# Altium integrated library Linear Technology Power Management Battery Management.IntLib: 626 symbols (part 45 of 56)
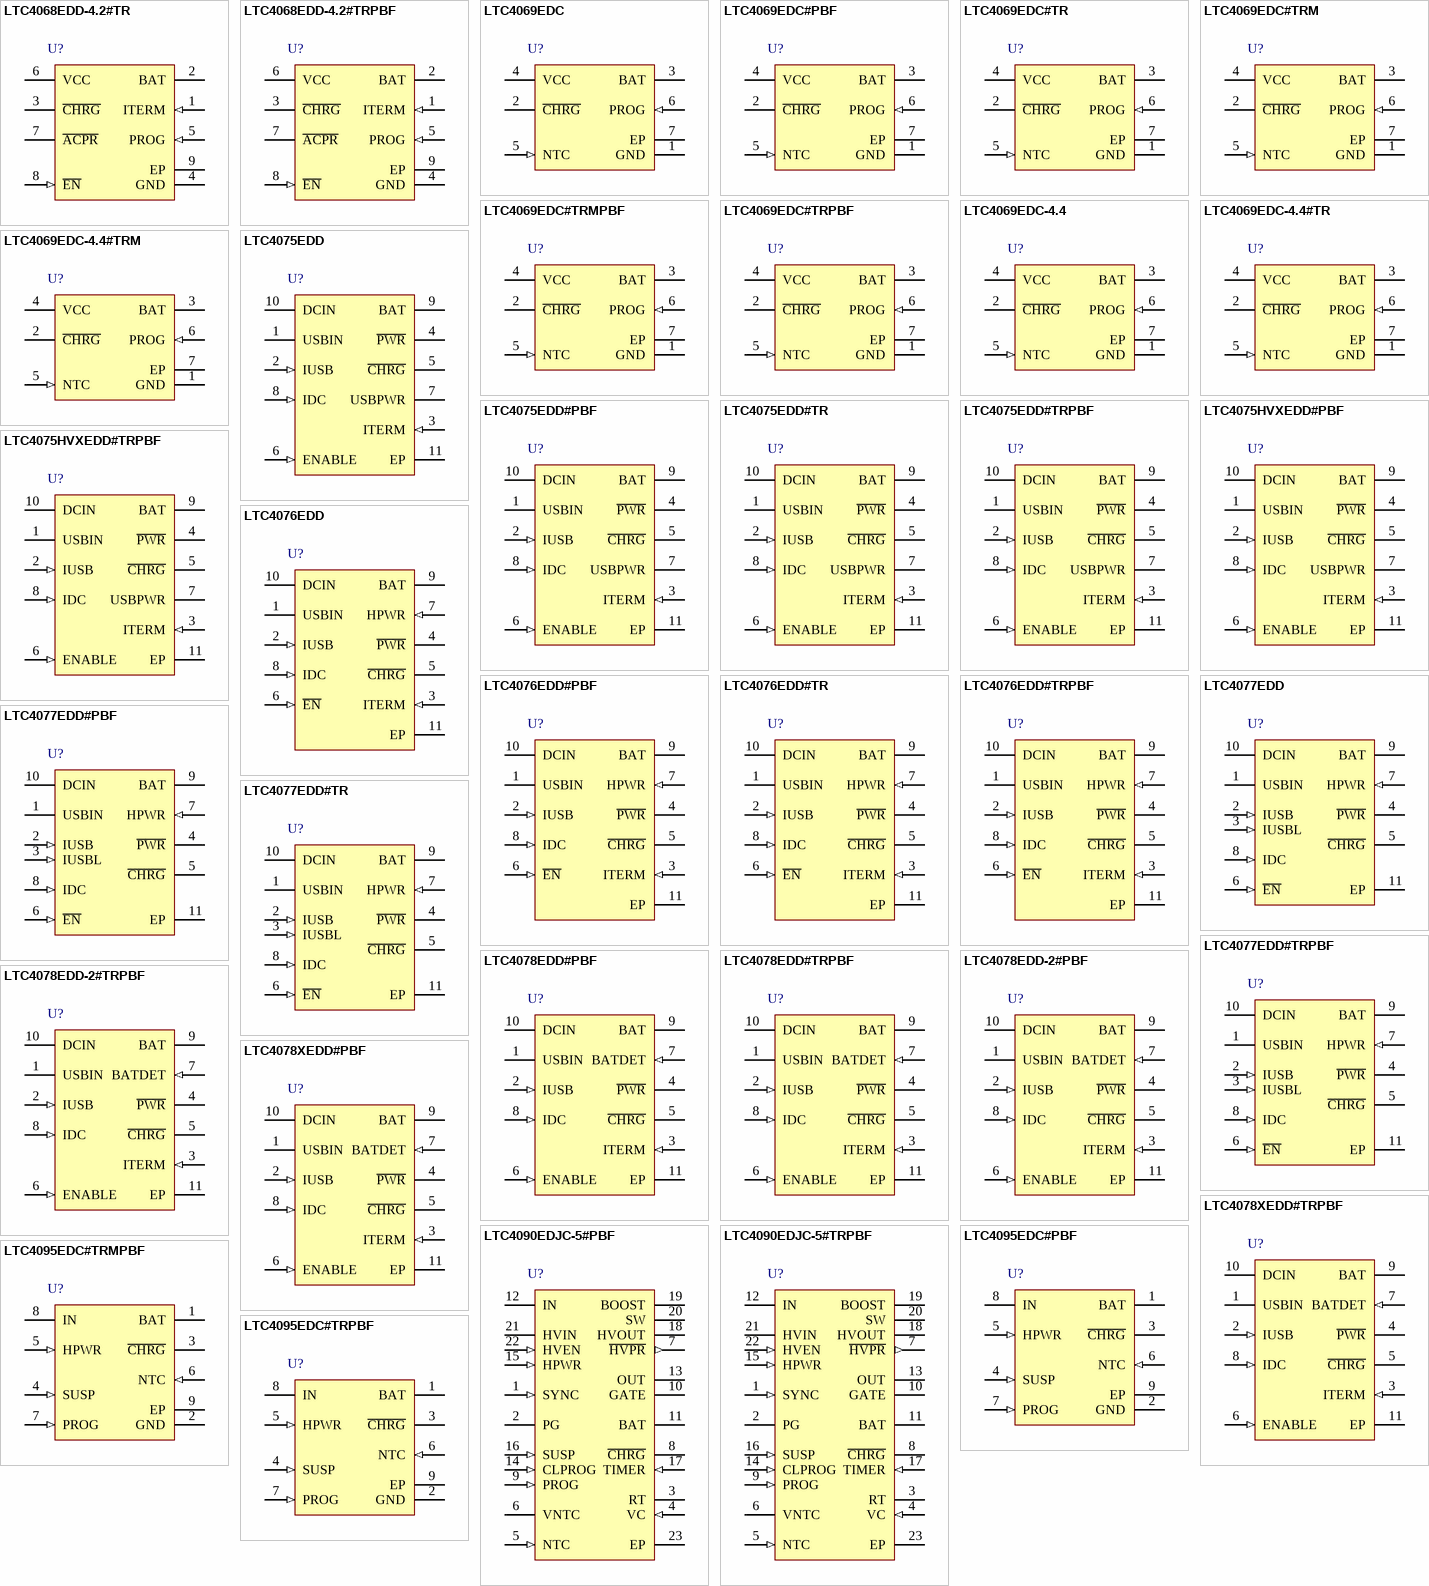
[diagram p66: symbols LTC4068EDD-4.2#TR to LTC4095EDC#TRPBF]

## LTC4068EDD-4.2#TRPBF
designator U?
Standalone Linear Li-Ion Battery Charger with Programmable Termination, 4.25 to 6.5 V Vin, 8-pin SON (DD-8), -40 to 85 degC, Pb-Free, Tape and Reel; Manufacturer: Linear Technology; PartNumber: LTC4068EDD-4.2#TRPBF; Battery Chemistry: Li-Ion, Li-Polymer; Charge Termination: C/x; Float Voltage: 4.2 V; Max Charge Current(A): 0.95; Number of Cells: 1; Vin Max(V): 6.5; Vin Min(V): 4.25; DatasheetVersion: Rev. A; PackageVersion: Jun-10; PackageReference: DD-8; PackageDescription: 8-Pin Plastic DFN, Body 3 x 3 mm, Pitch 0.5 mm; Supplier 1: Digi-Key; Supplier Part Number 1: LTC4068EDD-4.2#TRPBF-ND; Packing: Tape and Reel; RoHS: TRUE; Type of Charger: Linear; Mounting Technology: Surface Mount; Code_JEDEC: MO-229; ComponentLink1Description: Manufacturer URL; ComponentLink1URL: http://www.linear.com/; ComponentLink2Description: Datasheet; ComponentLink2URL: http://cds.linear.com/docs/en/datasheet/406842fa.pdf; ComponentLink3Description: Package Specification; ComponentLink3URL: http://cds.linear.com/docs/en/packaging/DFN_8_05-08-1698.pdf
footprint LT-DD-8_V (SON, 8-Leads, Body 3x3mm, Pitch 0.5mm, Thermal Pad 1.65x2.38 mm)
pins: 1 ITERM (in) "Charge Termination Program. The charge termination current threshold current is programmed by connecting a 1% resistor, RTERM, to ground.", 2 BAT (power) "Charge Current Output. Provides charge current to the battery from the internal P-channel MOSFET, and regulates the final float voltage to 4.2V. An internal precision resistor divider from this pin sets the float voltage. (See Datasheet)", 3 ~{CHRG} (hiz) "Charge Status Open-Drain Output. When the battery is charging, the C\H\R\G\ pin is pulled low by an internal N-channel MOSFET. When the charge cycle is completed, C\H\R\G\ becomes high impedance.", 4 GND (power) "Ground/Exposed Pad. The exposed backside package pad (Pin 9) is electrical ground and must be soldered to the PC board for maximum heat transfer.", 5 PROG (in) "Charge Current Program and Charge Current Monitor. Charge current is programmed by connecting a 1% resistor, RPROG, to ground. When charging in constant-current mode, this pin servos to 1V.", 6 VCC (power) "Positive Input Supply Voltage. Provides power to the charger. VCC can range from 4.25V to 6.5V. This pin should be bypassed with at least a 1uF capacitor.When VCC is within 100mV of the BAT pin voltage, the LTC4068 enters (See Datasheet)", 7 ~{ACPR} (hiz) "Power Supply Status Open-Drain Output. When VCC is greater than the undervoltage lockout threshold and at least 100mV above VBAT, the A\C\P\R\ pin is pulled to ground; otherwise, the pin is high impedance.", 8 ~{EN} (in) "Enable Input . A logic high on the E\N\ pin will put the LTC4068 into shutdown mode where the battery drain current is reduced to less than 2uA and the supply current is reduced to less than 50uA. A logic low or floating the (See Datasheet)", 9 EP (power) "Ground/Exposed Pad. The exposed backside package pad (Pin 9) is electrical ground and must be soldered to the PC board for maximum heat transfer."

## LTC4069EDC
designator U?
Standalone 750 mA Li-Ion Battery Charger with NTC Thermistor Input, 3.75 to 5.5 V Vin, 6-pin SON (DC6-6), -40 to 85 degC; Manufacturer: Linear Technology; PartNumber: LTC4069EDC; Battery Chemistry: Li-Ion, Li-Polymer; Charge Termination: C/10; Float Voltage: 4.2 V; Max Charge Current(A): 0.75; Number of Cells: 1; Type of Charger: Linear; Vin Max(V): 5.5; Vin Min(V): 3.75; DatasheetVersion: Rev. B; PackageVersion: Rev. B, 06/2010; PackageReference: DC6-6; PackageDescription: 6-Pin Plastic DFN, Body 2 x 2 mm, Pitch 0.5 mm; RoHS: FALSE; Mounting Technology: Surface Mount; Code_JEDEC: MO-229; ComponentLink1Description: Manufacturer URL; ComponentLink1URL: http://www.linear.com/; ComponentLink2Description: Datasheet; ComponentLink2URL: http://cds.linear.com/docs/en/datasheet/4069fb.pdf; ComponentLink3Description: Package Specification; ComponentLink3URL: http://cds.linear.com/docs/en/packaging/DFN_6_05-08-1703.pdf
footprint LT-DC6-6_V (SON, 6-Leads, Body 2x2mm, Pitch 0.5mm, Thermal Pad 1.42x0.61mm)
pins: 1 GND (power) "Ground.", 2 ~{CHRG} (hiz) "Open-Drain Charge Status Output. The charge status indicator pin has three states: pull-down, pulse at 2Hz and high impedance state. This output can be used as a logic interface or as an LED driver. When the battery is being (See Datasheet)", 3 BAT (power) "Charge Current Output. Provides charge current to the battery and regulates the final float voltage to 4.2V. An internal precision resistor divider on this pin sets the float voltage and is disconnected in shutdown mode.", 4 VCC (power) "Positive Input Supply Voltage. This pin provides power to the charger. VCC can range from 3.75V to 5.5V. This pin should be bypassed with at least a 1uF capacitor. When VCC is within 32mV of the BAT pin voltage, the LTC4069 (See Datasheet)", 5 NTC (in) "Input to the NTC (Negative Temperature Coefficient) Thermistor Temperature Monitoring Circuit. Under normal operation, connect a thermistor from the NTC pin to ground and a resistor of equal value from the NTC pin to VCC. (See Datasheet)", 6 PROG (in) "Charge Current Program and Charge Current Monitor Pin. Connecting a 1% resistor, RPROG, to ground programs the charge current. When charging in constant-current mode, this pin servos to 1V. In all modes, the voltage on this (See Datasheet)", 7 EP (power) "Ground. The Exposed Pad must be soldered to the PCB ground to provide both electrical contact and rated thermal performance."

## LTC4069EDC#PBF
designator U?
Standalone 750 mA Li-Ion Battery Charger with NTC Thermistor Input, 3.75 to 5.5 V Vin, 6-pin SON (DC6-6), -40 to 85 degC, Pb-Free; Manufacturer: Linear Technology; PartNumber: LTC4069EDC#PBF; Battery Chemistry: Li-Ion, Li-Polymer; Charge Termination: C/10; Float Voltage: 4.2 V; Max Charge Current(A): 0.75; Number of Cells: 1; Type of Charger: Linear; Vin Max(V): 5.5; Vin Min(V): 3.75; DatasheetVersion: Rev. B; PackageVersion: Rev. B, 06/2010; PackageReference: DC6-6; PackageDescription: 6-Pin Plastic DFN, Body 2 x 2 mm, Pitch 0.5 mm; Supplier 1: Farnell; Supplier Part Number 1: 2295377; RoHS: TRUE; Mounting Technology: Surface Mount; Code_JEDEC: MO-229; ComponentLink1Description: Manufacturer URL; ComponentLink1URL: http://www.linear.com/; ComponentLink2Description: Datasheet; ComponentLink2URL: http://cds.linear.com/docs/en/datasheet/4069fb.pdf; ComponentLink3Description: Package Specification; ComponentLink3URL: http://cds.linear.com/docs/en/packaging/DFN_6_05-08-1703.pdf
footprint LT-DC6-6_V (SON, 6-Leads, Body 2x2mm, Pitch 0.5mm, Thermal Pad 1.42x0.61mm)
pins: 1 GND (power) "Ground.", 2 ~{CHRG} (hiz) "Open-Drain Charge Status Output. The charge status indicator pin has three states: pull-down, pulse at 2Hz and high impedance state. This output can be used as a logic interface or as an LED driver. When the battery is being (See Datasheet)", 3 BAT (power) "Charge Current Output. Provides charge current to the battery and regulates the final float voltage to 4.2V. An internal precision resistor divider on this pin sets the float voltage and is disconnected in shutdown mode.", 4 VCC (power) "Positive Input Supply Voltage. This pin provides power to the charger. VCC can range from 3.75V to 5.5V. This pin should be bypassed with at least a 1uF capacitor. When VCC is within 32mV of the BAT pin voltage, the LTC4069 (See Datasheet)", 5 NTC (in) "Input to the NTC (Negative Temperature Coefficient) Thermistor Temperature Monitoring Circuit. Under normal operation, connect a thermistor from the NTC pin to ground and a resistor of equal value from the NTC pin to VCC. (See Datasheet)", 6 PROG (in) "Charge Current Program and Charge Current Monitor Pin. Connecting a 1% resistor, RPROG, to ground programs the charge current. When charging in constant-current mode, this pin servos to 1V. In all modes, the voltage on this (See Datasheet)", 7 EP (power) "Ground. The Exposed Pad must be soldered to the PCB ground to provide both electrical contact and rated thermal performance."

## LTC4069EDC#TR
designator U?
Standalone 750 mA Li-Ion Battery Charger with NTC Thermistor Input, 3.75 to 5.5 V Vin, 6-pin SON (DC6-6), -40 to 85 degC, Tape and Reel; Manufacturer: Linear Technology; PartNumber: LTC4069EDC#TR; Battery Chemistry: Li-Ion, Li-Polymer; Charge Termination: C/10; Float Voltage: 4.2 V; Max Charge Current(A): 0.75; Number of Cells: 1; Type of Charger: Linear; Vin Max(V): 5.5; Vin Min(V): 3.75; DatasheetVersion: Rev. B; PackageVersion: Rev. B, 06/2010; PackageReference: DC6-6; PackageDescription: 6-Pin Plastic DFN, Body 2 x 2 mm, Pitch 0.5 mm; Supplier 1: Newark; Supplier Part Number 1: 58M0923; Packing: Tape and Reel; RoHS: FALSE; Mounting Technology: Surface Mount; Code_JEDEC: MO-229; ComponentLink1Description: Manufacturer URL; ComponentLink1URL: http://www.linear.com/; ComponentLink2Description: Datasheet; ComponentLink2URL: http://cds.linear.com/docs/en/datasheet/4069fb.pdf; ComponentLink3Description: Package Specification; ComponentLink3URL: http://cds.linear.com/docs/en/packaging/DFN_6_05-08-1703.pdf
footprint LT-DC6-6_V (SON, 6-Leads, Body 2x2mm, Pitch 0.5mm, Thermal Pad 1.42x0.61mm)
pins: 1 GND (power) "Ground.", 2 ~{CHRG} (hiz) "Open-Drain Charge Status Output. The charge status indicator pin has three states: pull-down, pulse at 2Hz and high impedance state. This output can be used as a logic interface or as an LED driver. When the battery is being (See Datasheet)", 3 BAT (power) "Charge Current Output. Provides charge current to the battery and regulates the final float voltage to 4.2V. An internal precision resistor divider on this pin sets the float voltage and is disconnected in shutdown mode.", 4 VCC (power) "Positive Input Supply Voltage. This pin provides power to the charger. VCC can range from 3.75V to 5.5V. This pin should be bypassed with at least a 1uF capacitor. When VCC is within 32mV of the BAT pin voltage, the LTC4069 (See Datasheet)", 5 NTC (in) "Input to the NTC (Negative Temperature Coefficient) Thermistor Temperature Monitoring Circuit. Under normal operation, connect a thermistor from the NTC pin to ground and a resistor of equal value from the NTC pin to VCC. (See Datasheet)", 6 PROG (in) "Charge Current Program and Charge Current Monitor Pin. Connecting a 1% resistor, RPROG, to ground programs the charge current. When charging in constant-current mode, this pin servos to 1V. In all modes, the voltage on this (See Datasheet)", 7 EP (power) "Ground. The Exposed Pad must be soldered to the PCB ground to provide both electrical contact and rated thermal performance."

## LTC4069EDC#TRM
designator U?
Standalone 750 mA Li-Ion Battery Charger with NTC Thermistor Input, 3.75 to 5.5 V Vin, 6-pin SON (DC6-6), -40 to 85 degC, Mini Tape and Reel; Manufacturer: Linear Technology; PartNumber: LTC4069EDC#TRM; Battery Chemistry: Li-Ion, Li-Polymer; Charge Termination: C/10; Float Voltage: 4.2 V; Max Charge Current(A): 0.75; Number of Cells: 1; Type of Charger: Linear; Vin Max(V): 5.5; Vin Min(V): 3.75; DatasheetVersion: Rev. B; PackageVersion: Rev. B, 06/2010; PackageReference: DC6-6; PackageDescription: 6-Pin Plastic DFN, Body 2 x 2 mm, Pitch 0.5 mm; Packing: Mini Tape and Reel; RoHS: FALSE; Mounting Technology: Surface Mount; Code_JEDEC: MO-229; ComponentLink1Description: Manufacturer URL; ComponentLink1URL: http://www.linear.com/; ComponentLink2Description: Datasheet; ComponentLink2URL: http://cds.linear.com/docs/en/datasheet/4069fb.pdf; ComponentLink3Description: Package Specification; ComponentLink3URL: http://cds.linear.com/docs/en/packaging/DFN_6_05-08-1703.pdf
footprint LT-DC6-6_V (SON, 6-Leads, Body 2x2mm, Pitch 0.5mm, Thermal Pad 1.42x0.61mm)
pins: 1 GND (power) "Ground.", 2 ~{CHRG} (hiz) "Open-Drain Charge Status Output. The charge status indicator pin has three states: pull-down, pulse at 2Hz and high impedance state. This output can be used as a logic interface or as an LED driver. When the battery is being (See Datasheet)", 3 BAT (power) "Charge Current Output. Provides charge current to the battery and regulates the final float voltage to 4.2V. An internal precision resistor divider on this pin sets the float voltage and is disconnected in shutdown mode.", 4 VCC (power) "Positive Input Supply Voltage. This pin provides power to the charger. VCC can range from 3.75V to 5.5V. This pin should be bypassed with at least a 1uF capacitor. When VCC is within 32mV of the BAT pin voltage, the LTC4069 (See Datasheet)", 5 NTC (in) "Input to the NTC (Negative Temperature Coefficient) Thermistor Temperature Monitoring Circuit. Under normal operation, connect a thermistor from the NTC pin to ground and a resistor of equal value from the NTC pin to VCC. (See Datasheet)", 6 PROG (in) "Charge Current Program and Charge Current Monitor Pin. Connecting a 1% resistor, RPROG, to ground programs the charge current. When charging in constant-current mode, this pin servos to 1V. In all modes, the voltage on this (See Datasheet)", 7 EP (power) "Ground. The Exposed Pad must be soldered to the PCB ground to provide both electrical contact and rated thermal performance."

## LTC4069EDC#TRMPBF
designator U?
Standalone 750 mA Li-Ion Battery Charger with NTC Thermistor Input, 3.75 to 5.5 V Vin, 6-pin SON (DC6-6), -40 to 85 degC, Pb-Free, Mini Tape and Reel; Manufacturer: Linear Technology; PartNumber: LTC4069EDC#TRMPBF; Battery Chemistry: Li-Ion, Li-Polymer; Charge Termination: C/10; Float Voltage: 4.2 V; Max Charge Current(A): 0.75; Number of Cells: 1; Type of Charger: Linear; Vin Max(V): 5.5; Vin Min(V): 3.75; DatasheetVersion: Rev. B; PackageVersion: Rev. B, 06/2010; PackageReference: DC6-6; PackageDescription: 6-Pin Plastic DFN, Body 2 x 2 mm, Pitch 0.5 mm; Supplier 1: Digi-Key; Supplier Part Number 1: LTC4069EDC#TRMPBF-ND; Supplier 2: Newark; Supplier Part Number 2: 58M0925; Packing: Mini Tape and Reel; RoHS: TRUE; Mounting Technology: Surface Mount; Code_JEDEC: MO-229; ComponentLink1Description: Manufacturer URL; ComponentLink1URL: http://www.linear.com/; ComponentLink2Description: Datasheet; ComponentLink2URL: http://cds.linear.com/docs/en/datasheet/4069fb.pdf; ComponentLink3Description: Package Specification; ComponentLink3URL: http://cds.linear.com/docs/en/packaging/DFN_6_05-08-1703.pdf
footprint LT-DC6-6_V (SON, 6-Leads, Body 2x2mm, Pitch 0.5mm, Thermal Pad 1.42x0.61mm)
pins: 1 GND (power) "Ground.", 2 ~{CHRG} (hiz) "Open-Drain Charge Status Output. The charge status indicator pin has three states: pull-down, pulse at 2Hz and high impedance state. This output can be used as a logic interface or as an LED driver. When the battery is being (See Datasheet)", 3 BAT (power) "Charge Current Output. Provides charge current to the battery and regulates the final float voltage to 4.2V. An internal precision resistor divider on this pin sets the float voltage and is disconnected in shutdown mode.", 4 VCC (power) "Positive Input Supply Voltage. This pin provides power to the charger. VCC can range from 3.75V to 5.5V. This pin should be bypassed with at least a 1uF capacitor. When VCC is within 32mV of the BAT pin voltage, the LTC4069 (See Datasheet)", 5 NTC (in) "Input to the NTC (Negative Temperature Coefficient) Thermistor Temperature Monitoring Circuit. Under normal operation, connect a thermistor from the NTC pin to ground and a resistor of equal value from the NTC pin to VCC. (See Datasheet)", 6 PROG (in) "Charge Current Program and Charge Current Monitor Pin. Connecting a 1% resistor, RPROG, to ground programs the charge current. When charging in constant-current mode, this pin servos to 1V. In all modes, the voltage on this (See Datasheet)", 7 EP (power) "Ground. The Exposed Pad must be soldered to the PCB ground to provide both electrical contact and rated thermal performance."

## LTC4069EDC#TRPBF
designator U?
Standalone 750 mA Li-Ion Battery Charger with NTC Thermistor Input, 3.75 to 5.5 V Vin, 6-pin SON (DC6-6), -40 to 85 degC, Pb-Free, Tape and Reel; Manufacturer: Linear Technology; PartNumber: LTC4069EDC#TRPBF; Battery Chemistry: Li-Ion, Li-Polymer; Charge Termination: C/10; Float Voltage: 4.2 V; Max Charge Current(A): 0.75; Number of Cells: 1; Type of Charger: Linear; Vin Max(V): 5.5; Vin Min(V): 3.75; DatasheetVersion: Rev. B; PackageVersion: Rev. B, 06/2010; PackageReference: DC6-6; PackageDescription: 6-Pin Plastic DFN, Body 2 x 2 mm, Pitch 0.5 mm; Supplier 1: Digi-Key; Supplier Part Number 1: LTC4069EDC#TRPBF-ND; Packing: Tape and Reel; RoHS: TRUE; Mounting Technology: Surface Mount; Code_JEDEC: MO-229; ComponentLink1Description: Manufacturer URL; ComponentLink1URL: http://www.linear.com/; ComponentLink2Description: Datasheet; ComponentLink2URL: http://cds.linear.com/docs/en/datasheet/4069fb.pdf; ComponentLink3Description: Package Specification; ComponentLink3URL: http://cds.linear.com/docs/en/packaging/DFN_6_05-08-1703.pdf
footprint LT-DC6-6_V (SON, 6-Leads, Body 2x2mm, Pitch 0.5mm, Thermal Pad 1.42x0.61mm)
pins: 1 GND (power) "Ground.", 2 ~{CHRG} (hiz) "Open-Drain Charge Status Output. The charge status indicator pin has three states: pull-down, pulse at 2Hz and high impedance state. This output can be used as a logic interface or as an LED driver. When the battery is being (See Datasheet)", 3 BAT (power) "Charge Current Output. Provides charge current to the battery and regulates the final float voltage to 4.2V. An internal precision resistor divider on this pin sets the float voltage and is disconnected in shutdown mode.", 4 VCC (power) "Positive Input Supply Voltage. This pin provides power to the charger. VCC can range from 3.75V to 5.5V. This pin should be bypassed with at least a 1uF capacitor. When VCC is within 32mV of the BAT pin voltage, the LTC4069 (See Datasheet)", 5 NTC (in) "Input to the NTC (Negative Temperature Coefficient) Thermistor Temperature Monitoring Circuit. Under normal operation, connect a thermistor from the NTC pin to ground and a resistor of equal value from the NTC pin to VCC. (See Datasheet)", 6 PROG (in) "Charge Current Program and Charge Current Monitor Pin. Connecting a 1% resistor, RPROG, to ground programs the charge current. When charging in constant-current mode, this pin servos to 1V. In all modes, the voltage on this (See Datasheet)", 7 EP (power) "Ground. The Exposed Pad must be soldered to the PCB ground to provide both electrical contact and rated thermal performance."

## LTC4069EDC-4.4
designator U?
Standalone 750 mA Li-Ion Battery Charger with NTC Thermistor Input, 3.75 to 5.5 V Vin, 6-pin SON (DC6-6), -40 to 85 degC; Manufacturer: Linear Technology; PartNumber: LTC4069EDC-4.4; Battery Chemistry: Li-Ion, Li-Polymer; Charge Termination: C/10, On-board timer; Float Voltage: 4.4 V; Max Charge Current(A): 0.75; Number of Cells: 1; Type of Charger: Linear; Vin Max(V): 5.5; Vin Min(V): 3.75; DatasheetVersion: Rev. A; PackageVersion: Rev. B, 06/2010; PackageReference: DC6-6; PackageDescription: 6-Pin Plastic DFN, Body 2 x 2 mm, Pitch 0.5 mm; RoHS: FALSE; Mounting Technology: Surface Mount; Code_JEDEC: MO-229; ComponentLink1Description: Manufacturer URL; ComponentLink1URL: http://www.linear.com/; ComponentLink2Description: Datasheet; ComponentLink2URL: http://cds.linear.com/docs/en/datasheet/406944fa.pdf; ComponentLink3Description: Package Specification; ComponentLink3URL: http://cds.linear.com/docs/en/packaging/DFN_6_05-08-1703.pdf
footprint LT-DC6-6_V (SON, 6-Leads, Body 2x2mm, Pitch 0.5mm, Thermal Pad 1.42x0.61mm)
pins: 1 GND (power) "Ground.", 2 ~{CHRG} (hiz) "Open-Drain Charge Status Output. The charge status indicator pin has three states: pull-down, pulse at 2Hz and high impedance state. This output can be used as a logic interface or as an LED driver. When the battery is being (See Datasheet)", 3 BAT (power) "Charge Current Output. Provides charge current to the battery and regulates the final float voltage to 4.2V. An internal precision resistor divider on this pin sets the float voltage and is disconnected in shutdown mode.", 4 VCC (power) "Positive Input Supply Voltage. This pin provides power to the charger. VCC can range from 3.75V to 5.5V. This pin should be bypassed with at least a 1uF capacitor. When VCC is within 32mV of the BAT pin voltage, the LTC4069 (See Datasheet)", 5 NTC (in) "Input to the NTC (Negative Temperature Coefficient) Thermistor Temperature Monitoring Circuit. Under normal operation, connect a thermistor from the NTC pin to ground and a resistor of equal value from the NTC pin to VCC. (See Datasheet)", 6 PROG (in) "Charge Current Program and Charge Current Monitor Pin. Connecting a 1% resistor, RPROG, to ground programs the charge current. When charging in constant-current mode, this pin servos to 1V. In all modes, the voltage on this (See Datasheet)", 7 EP (power) "Ground. The Exposed Pad must be soldered to the PCB ground to provide both electrical contact and rated thermal performance."

## LTC4069EDC-4.4#TR
designator U?
Standalone 750 mA Li-Ion Battery Charger with NTC Thermistor Input, 3.75 to 5.5 V Vin, 6-pin SON (DC6-6), -40 to 85 degC, Tape and Reel; Manufacturer: Linear Technology; PartNumber: LTC4069EDC-4.4#TR; Battery Chemistry: Li-Ion, Li-Polymer; Charge Termination: C/10, On-board timer; Float Voltage: 4.4 V; Max Charge Current(A): 0.75; Number of Cells: 1; Type of Charger: Linear; Vin Max(V): 5.5; Vin Min(V): 3.75; DatasheetVersion: Rev. A; PackageVersion: Rev. B, 06/2010; PackageReference: DC6-6; PackageDescription: 6-Pin Plastic DFN, Body 2 x 2 mm, Pitch 0.5 mm; Packing: Tape and Reel; RoHS: FALSE; Mounting Technology: Surface Mount; Code_JEDEC: MO-229; ComponentLink1Description: Manufacturer URL; ComponentLink1URL: http://www.linear.com/; ComponentLink2Description: Datasheet; ComponentLink2URL: http://cds.linear.com/docs/en/datasheet/406944fa.pdf; ComponentLink3Description: Package Specification; ComponentLink3URL: http://cds.linear.com/docs/en/packaging/DFN_6_05-08-1703.pdf
footprint LT-DC6-6_V (SON, 6-Leads, Body 2x2mm, Pitch 0.5mm, Thermal Pad 1.42x0.61mm)
pins: 1 GND (power) "Ground.", 2 ~{CHRG} (hiz) "Open-Drain Charge Status Output. The charge status indicator pin has three states: pull-down, pulse at 2Hz and high impedance state. This output can be used as a logic interface or as an LED driver. When the battery is being (See Datasheet)", 3 BAT (power) "Charge Current Output. Provides charge current to the battery and regulates the final float voltage to 4.2V. An internal precision resistor divider on this pin sets the float voltage and is disconnected in shutdown mode.", 4 VCC (power) "Positive Input Supply Voltage. This pin provides power to the charger. VCC can range from 3.75V to 5.5V. This pin should be bypassed with at least a 1uF capacitor. When VCC is within 32mV of the BAT pin voltage, the LTC4069 (See Datasheet)", 5 NTC (in) "Input to the NTC (Negative Temperature Coefficient) Thermistor Temperature Monitoring Circuit. Under normal operation, connect a thermistor from the NTC pin to ground and a resistor of equal value from the NTC pin to VCC. (See Datasheet)", 6 PROG (in) "Charge Current Program and Charge Current Monitor Pin. Connecting a 1% resistor, RPROG, to ground programs the charge current. When charging in constant-current mode, this pin servos to 1V. In all modes, the voltage on this (See Datasheet)", 7 EP (power) "Ground. The Exposed Pad must be soldered to the PCB ground to provide both electrical contact and rated thermal performance."

## LTC4069EDC-4.4#TRM
designator U?
Standalone 750 mA Li-Ion Battery Charger with NTC Thermistor Input, 3.75 to 5.5 V Vin, 6-pin SON (DC6-6), -40 to 85 degC, Mini Tape and Reel; Manufacturer: Linear Technology; PartNumber: LTC4069EDC-4.4#TRM; Battery Chemistry: Li-Ion, Li-Polymer; Charge Termination: C/10, On-board timer; Float Voltage: 4.4 V; Max Charge Current(A): 0.75; Number of Cells: 1; Type of Charger: Linear; Vin Max(V): 5.5; Vin Min(V): 3.75; DatasheetVersion: Rev. A; PackageVersion: Rev. B, 06/2010; PackageReference: DC6-6; PackageDescription: 6-Pin Plastic DFN, Body 2 x 2 mm, Pitch 0.5 mm; Supplier 1: Farnell; Supplier Part Number 1: 1648043; Packing: Mini Tape and Reel; RoHS: FALSE; Mounting Technology: Surface Mount; Code_JEDEC: MO-229; ComponentLink1Description: Manufacturer URL; ComponentLink1URL: http://www.linear.com/; ComponentLink2Description: Datasheet; ComponentLink2URL: http://cds.linear.com/docs/en/datasheet/406944fa.pdf; ComponentLink3Description: Package Specification; ComponentLink3URL: http://cds.linear.com/docs/en/packaging/DFN_6_05-08-1703.pdf
footprint LT-DC6-6_V (SON, 6-Leads, Body 2x2mm, Pitch 0.5mm, Thermal Pad 1.42x0.61mm)
pins: 1 GND (power) "Ground.", 2 ~{CHRG} (hiz) "Open-Drain Charge Status Output. The charge status indicator pin has three states: pull-down, pulse at 2Hz and high impedance state. This output can be used as a logic interface or as an LED driver. When the battery is being (See Datasheet)", 3 BAT (power) "Charge Current Output. Provides charge current to the battery and regulates the final float voltage to 4.2V. An internal precision resistor divider on this pin sets the float voltage and is disconnected in shutdown mode.", 4 VCC (power) "Positive Input Supply Voltage. This pin provides power to the charger. VCC can range from 3.75V to 5.5V. This pin should be bypassed with at least a 1uF capacitor. When VCC is within 32mV of the BAT pin voltage, the LTC4069 (See Datasheet)", 5 NTC (in) "Input to the NTC (Negative Temperature Coefficient) Thermistor Temperature Monitoring Circuit. Under normal operation, connect a thermistor from the NTC pin to ground and a resistor of equal value from the NTC pin to VCC. (See Datasheet)", 6 PROG (in) "Charge Current Program and Charge Current Monitor Pin. Connecting a 1% resistor, RPROG, to ground programs the charge current. When charging in constant-current mode, this pin servos to 1V. In all modes, the voltage on this (See Datasheet)", 7 EP (power) "Ground. The Exposed Pad must be soldered to the PCB ground to provide both electrical contact and rated thermal performance."

## LTC4075EDD
designator U?
Dual Input USB/AC Adapter Standalone Li-Ion Battery Charger, 4.3 to 8 V Vin, 10-pin SON (DD-10), -40 to 85 degC; Manufacturer: Linear Technology; PartNumber: LTC4075EDD; Battery Chemistry: Li-Ion, Li-Polymer; Charge Termination: C/x; Float Voltage: 4.2 V; Max Charge Current(A): 0.95; Number of Cells: 1; Type of Charger: Linear; Vin Max(V): 8; Vin Min(V): 4.3; DatasheetVersion: Rev. A; PackageVersion: Rev. C, 06/2010; PackageReference: DD-10; PackageDescription: 10-Pin Plastic DFN, Body 3 x 3 mm, Pitch 0.5 mm; Supplier 1: Digi-Key; Supplier Part Number 1: LTC4075EDD-ND; RoHS: FALSE; Mounting Technology: Surface Mount; Code_JEDEC: MO-229; ComponentLink1Description: Manufacturer URL; ComponentLink1URL: http://www.linear.com/; ComponentLink2Description: Datasheet; ComponentLink2URL: http://cds.linear.com/docs/en/datasheet/4075Xfa.pdf; ComponentLink3Description: Package Specification; ComponentLink3URL: http://cds.linear.com/docs/en/packaging/DFN_10_05-08-1699.pdf
footprint LT-DD-10_V (SON, 10-Leads, Body 3x3mm, Pitch 0.5mm, Thermal Pad 2.38x1.65mm)
pins: 1 USBIN (power), 2 IUSB (in) "Charge Current Program for USB Power. The charge current is set by connecting a resistor, RIUSB, to ground. When charging in constant-current mode, this pin servos to 1V.", 3 ITERM (in) "Termination Current Threshold Program. The termination current threshold, ITERMINATE, is set by connecting a resistor, RITERM, to ground.", 4 ~{PWR} (hiz), 5 ~{CHRG} (hiz), 6 ENABLE (in), 7 USBPWR (hiz), 8 IDC (in) "Charge Current Program for Wall Adapter Power. The charge current is set by connecting a resistor, RIDC, to ground. When charging in constant-current mode, this pin servos to 1V.", 9 BAT (power), 10 DCIN (power), 11 EP (power) "GND. The exposed backside of the package is ground and must be soldered to PC board ground for electrical connection and maximum heat transfer."

## LTC4075EDD#PBF
designator U?
Dual Input USB/AC Adapter Standalone Li-Ion Battery Charger, 4.3 to 8 V Vin, 10-pin SON (DD-10), -40 to 85 degC, Pb-Free; Manufacturer: Linear Technology; PartNumber: LTC4075EDD#PBF; Battery Chemistry: Li-Ion, Li-Polymer; Charge Termination: C/x; Float Voltage: 4.2 V; Max Charge Current(A): 0.95; Number of Cells: 1; Type of Charger: Linear; Vin Max(V): 8; Vin Min(V): 4.3; DatasheetVersion: Rev. A; PackageVersion: Rev. C, 06/2010; PackageReference: DD-10; PackageDescription: 10-Pin Plastic DFN, Body 3 x 3 mm, Pitch 0.5 mm; Supplier 1: Digi-Key; Supplier Part Number 1: LTC4075EDD#PBF-ND; Supplier 2: Farnell; Supplier Part Number 2: 1556269; Supplier 3: Newark; Supplier Part Number 3: 58M0928; RoHS: TRUE; Mounting Technology: Surface Mount; Code_JEDEC: MO-229; ComponentLink1Description: Manufacturer URL; ComponentLink1URL: http://www.linear.com/; ComponentLink2Description: Datasheet; ComponentLink2URL: http://cds.linear.com/docs/en/datasheet/4075Xfa.pdf; ComponentLink3Description: Package Specification; ComponentLink3URL: http://cds.linear.com/docs/en/packaging/DFN_10_05-08-1699.pdf
footprint LT-DD-10_V (SON, 10-Leads, Body 3x3mm, Pitch 0.5mm, Thermal Pad 2.38x1.65mm)
pins: 1 USBIN (power), 2 IUSB (in) "Charge Current Program for USB Power. The charge current is set by connecting a resistor, RIUSB, to ground. When charging in constant-current mode, this pin servos to 1V.", 3 ITERM (in) "Termination Current Threshold Program. The termination current threshold, ITERMINATE, is set by connecting a resistor, RITERM, to ground.", 4 ~{PWR} (hiz), 5 ~{CHRG} (hiz), 6 ENABLE (in), 7 USBPWR (hiz), 8 IDC (in) "Charge Current Program for Wall Adapter Power. The charge current is set by connecting a resistor, RIDC, to ground. When charging in constant-current mode, this pin servos to 1V.", 9 BAT (power), 10 DCIN (power), 11 EP (power) "GND. The exposed backside of the package is ground and must be soldered to PC board ground for electrical connection and maximum heat transfer."

## LTC4075EDD#TR
designator U?
Dual Input USB/AC Adapter Standalone Li-Ion Battery Charger, 4.3 to 8 V Vin, 10-pin SON (DD-10), -40 to 85 degC, Tape and Reel; Manufacturer: Linear Technology; PartNumber: LTC4075EDD#TR; Battery Chemistry: Li-Ion, Li-Polymer; Charge Termination: C/x; Float Voltage: 4.2 V; Max Charge Current(A): 0.95; Number of Cells: 1; Type of Charger: Linear; Vin Max(V): 8; Vin Min(V): 4.3; DatasheetVersion: Rev. A; PackageVersion: Rev. C, 06/2010; PackageReference: DD-10; PackageDescription: 10-Pin Plastic DFN, Body 3 x 3 mm, Pitch 0.5 mm; Supplier 1: Digi-Key; Supplier Part Number 1: LTC4075EDD#TR-ND; Packing: Tape and Reel; RoHS: FALSE; Mounting Technology: Surface Mount; Code_JEDEC: MO-229; ComponentLink1Description: Manufacturer URL; ComponentLink1URL: http://www.linear.com/; ComponentLink2Description: Datasheet; ComponentLink2URL: http://cds.linear.com/docs/en/datasheet/4075Xfa.pdf; ComponentLink3Description: Package Specification; ComponentLink3URL: http://cds.linear.com/docs/en/packaging/DFN_10_05-08-1699.pdf
footprint LT-DD-10_V (SON, 10-Leads, Body 3x3mm, Pitch 0.5mm, Thermal Pad 2.38x1.65mm)
pins: 1 USBIN (power), 2 IUSB (in) "Charge Current Program for USB Power. The charge current is set by connecting a resistor, RIUSB, to ground. When charging in constant-current mode, this pin servos to 1V.", 3 ITERM (in) "Termination Current Threshold Program. The termination current threshold, ITERMINATE, is set by connecting a resistor, RITERM, to ground.", 4 ~{PWR} (hiz), 5 ~{CHRG} (hiz), 6 ENABLE (in), 7 USBPWR (hiz), 8 IDC (in) "Charge Current Program for Wall Adapter Power. The charge current is set by connecting a resistor, RIDC, to ground. When charging in constant-current mode, this pin servos to 1V.", 9 BAT (power), 10 DCIN (power), 11 EP (power) "GND. The exposed backside of the package is ground and must be soldered to PC board ground for electrical connection and maximum heat transfer."

## LTC4075EDD#TRPBF
designator U?
Dual Input USB/AC Adapter Standalone Li-Ion Battery Charger, 4.3 to 8 V Vin, 10-pin SON (DD-10), -40 to 85 degC, Pb-Free, Tape and Reel; Manufacturer: Linear Technology; PartNumber: LTC4075EDD#TRPBF; Battery Chemistry: Li-Ion, Li-Polymer; Charge Termination: C/x; Float Voltage: 4.2 V; Max Charge Current(A): 0.95; Number of Cells: 1; Type of Charger: Linear; Vin Max(V): 8; Vin Min(V): 4.3; DatasheetVersion: Rev. A; PackageVersion: Rev. C, 06/2010; PackageReference: DD-10; PackageDescription: 10-Pin Plastic DFN, Body 3 x 3 mm, Pitch 0.5 mm; Supplier 1: Digi-Key; Supplier Part Number 1: LTC4075EDD#TRPBF-ND; Packing: Tape and Reel; RoHS: TRUE; Mounting Technology: Surface Mount; Code_JEDEC: MO-229; ComponentLink1Description: Manufacturer URL; ComponentLink1URL: http://www.linear.com/; ComponentLink2Description: Datasheet; ComponentLink2URL: http://cds.linear.com/docs/en/datasheet/4075Xfa.pdf; ComponentLink3Description: Package Specification; ComponentLink3URL: http://cds.linear.com/docs/en/packaging/DFN_10_05-08-1699.pdf
footprint LT-DD-10_V (SON, 10-Leads, Body 3x3mm, Pitch 0.5mm, Thermal Pad 2.38x1.65mm)
pins: 1 USBIN (power), 2 IUSB (in) "Charge Current Program for USB Power. The charge current is set by connecting a resistor, RIUSB, to ground. When charging in constant-current mode, this pin servos to 1V.", 3 ITERM (in) "Termination Current Threshold Program. The termination current threshold, ITERMINATE, is set by connecting a resistor, RITERM, to ground.", 4 ~{PWR} (hiz), 5 ~{CHRG} (hiz), 6 ENABLE (in), 7 USBPWR (hiz), 8 IDC (in) "Charge Current Program for Wall Adapter Power. The charge current is set by connecting a resistor, RIDC, to ground. When charging in constant-current mode, this pin servos to 1V.", 9 BAT (power), 10 DCIN (power), 11 EP (power) "GND. The exposed backside of the package is ground and must be soldered to PC board ground for electrical connection and maximum heat transfer."

## LTC4075HVXEDD#PBF
designator U?
High Voltage Dual Input Li-Ion / Polymer Battery Charger, 4.3 to 22 V Vin, 10-pin SON (DD-10), -40 to 85 degC, Pb-Free; Manufacturer: Linear Technology; PartNumber: LTC4075HVXEDD#PBF; Battery Chemistry: Li-Ion, Li-Polymer; Charge Termination: C/x; Float Voltage: 4.2 V; Max Charge Current(A): 0.95; Number of Cells: 1; Type of Charger: Linear; Vin Max(V): 22; Vin Min(V): 4.3; PackageVersion: Rev. C, 06/2010; PackageReference: DD-10; PackageDescription: 10-Pin Plastic DFN, Body 3 x 3 mm, Pitch 0.5 mm; Supplier 1: Digi-Key; Supplier Part Number 1: LTC4075HVXEDD#PBF-ND; Supplier 2: Newark; Supplier Part Number 2: 58M0931; RoHS: TRUE; Mounting Technology: Surface Mount; Code_JEDEC: MO-229; ComponentLink1Description: Manufacturer URL; ComponentLink1URL: http://www.linear.com/; ComponentLink2Description: Datasheet; ComponentLink2URL: http://cds.linear.com/docs/en/datasheet/4075hvxf.pdf; ComponentLink3Description: Package Specification; ComponentLink3URL: http://cds.linear.com/docs/en/packaging/DFN_10_05-08-1699.pdf
footprint LT-DD-10_V (SON, 10-Leads, Body 3x3mm, Pitch 0.5mm, Thermal Pad 2.38x1.65mm)
pins: 1 USBIN (power), 2 IUSB (in) "Charge Current Program for USB Power. The charge current is set by connecting a resistor, RIUSB, to ground. When charging in constant-current mode, this pin servos to 1V.", 3 ITERM (in) "Termination Current Threshold Program. The termination current threshold, ITERMINATE, is set by connecting a resistor, RITERM, to ground.", 4 ~{PWR} (hiz), 5 ~{CHRG} (hiz), 6 ENABLE (in), 7 USBPWR (hiz), 8 IDC (in) "Charge Current Program for Wall Adapter Power. The charge current is set by connecting a resistor, RIDC, to ground. When charging in constant-current mode, this pin servos to 1V.", 9 BAT (power), 10 DCIN (power), 11 EP (power) "GND. The exposed backside of the package is ground and must be soldered to PC board ground for electrical connection and maximum heat transfer."

## LTC4075HVXEDD#TRPBF
designator U?
High Voltage Dual Input Li-Ion / Polymer Battery Charger, 4.3 to 22 V Vin, 10-pin SON (DD-10), -40 to 85 degC, Pb-Free, Tape and Reel; Manufacturer: Linear Technology; PartNumber: LTC4075HVXEDD#TRPBF; Battery Chemistry: Li-Ion, Li-Polymer; Charge Termination: C/x; Float Voltage: 4.2 V; Max Charge Current(A): 0.95; Number of Cells: 1; Type of Charger: Linear; Vin Max(V): 22; Vin Min(V): 4.3; PackageVersion: Rev. C, 06/2010; PackageReference: DD-10; PackageDescription: 10-Pin Plastic DFN, Body 3 x 3 mm, Pitch 0.5 mm; Supplier 1: Digi-Key; Supplier Part Number 1: LTC4075HVXEDD#TRPBF-ND; Packing: Tape and Reel; RoHS: TRUE; Mounting Technology: Surface Mount; Code_JEDEC: MO-229; ComponentLink1Description: Manufacturer URL; ComponentLink1URL: http://www.linear.com/; ComponentLink2Description: Datasheet; ComponentLink2URL: http://cds.linear.com/docs/en/datasheet/4075hvxf.pdf; ComponentLink3Description: Package Specification; ComponentLink3URL: http://cds.linear.com/docs/en/packaging/DFN_10_05-08-1699.pdf
footprint LT-DD-10_V (SON, 10-Leads, Body 3x3mm, Pitch 0.5mm, Thermal Pad 2.38x1.65mm)
pins: 1 USBIN (power), 2 IUSB (in) "Charge Current Program for USB Power. The charge current is set by connecting a resistor, RIUSB, to ground. When charging in constant-current mode, this pin servos to 1V.", 3 ITERM (in) "Termination Current Threshold Program. The termination current threshold, ITERMINATE, is set by connecting a resistor, RITERM, to ground.", 4 ~{PWR} (hiz), 5 ~{CHRG} (hiz), 6 ENABLE (in), 7 USBPWR (hiz), 8 IDC (in) "Charge Current Program for Wall Adapter Power. The charge current is set by connecting a resistor, RIDC, to ground. When charging in constant-current mode, this pin servos to 1V.", 9 BAT (power), 10 DCIN (power), 11 EP (power) "GND. The exposed backside of the package is ground and must be soldered to PC board ground for electrical connection and maximum heat transfer."

## LTC4076EDD
designator U?
Dual Input Standalone Battery Charger, 4.3 to 8 V Vin, 10-pin SON (DD-10), -40 to 85 degC; Manufacturer: Linear Technology; PartNumber: LTC4076EDD; Battery Chemistry: Li-Ion, Li-Polymer; Charge Termination: C/X; Float Voltage: 4.2 V; Max Charge Current(A): 0.95; Number of Cells: 1; Type of Charger: Linear; Vin Max(V): 8; Vin Min(V): 4.3; DatasheetVersion: Rev. A; PackageVersion: Rev. C, 06/2010; PackageReference: DD-10; PackageDescription: 10-Pin Plastic DFN, Body 3 x 3 mm, Pitch 0.5 mm; Supplier 1: Digi-Key; Supplier Part Number 1: LTC4076EDD-ND; RoHS: FALSE; Mounting Technology: Surface Mount; Code_JEDEC: MO-229; ComponentLink1Description: Manufacturer URL; ComponentLink1URL: http://www.linear.com/; ComponentLink2Description: Datasheet; ComponentLink2URL: http://cds.linear.com/docs/en/datasheet/4076fa.pdf; ComponentLink3Description: Package Specification; ComponentLink3URL: http://cds.linear.com/docs/en/packaging/DFN_10_05-08-1699.pdf
footprint LT-DD-10_V (SON, 10-Leads, Body 3x3mm, Pitch 0.5mm, Thermal Pad 2.38x1.65mm)
pins: 1 USBIN (power) "USB Input Supply Pin. Provides power to the battery charger. The maximum supply current is 650mA. This pin should be bypassed with a 1uF capacitor.", 2 IUSB (in) "Charge Current Program for USB Power. The charge current is set by connecting a resistor, RIUSB, to ground. When charging in constant-current mode, this pin servos to 1V.", 3 ITERM (in) "Termination Current Threshold Program. The termination current threshold, ITERMINATE, is set by connecting a resistor, RITERM, to ground. ITERMINATE is set by the following formula: ITERMINATE = 100V/RITERM When the battery (See Datasheet)", 4 ~{PWR} (hiz) "Open-Drain Power Supply Status Output. When the DCIN or USBIN pin voltage is sufficient to begin charging (i.e. when the supply is greater than the undervoltage lockout threshold and at least 180mV above the battery (See Datasheet)", 5 ~{CHRG} (hiz) "Open-Drain Charge Status Output. When the LTC4076 is charging, the C\H\R\G\ pin is pulled low by an internal N-channel MOSFET. When the charge cycle is completed, C\H\R\G\ becomes high impedance. This output is capable of (See Datasheet)", 6 ~{EN} (in) "Charge Enable Input. A logic low on this pin enables the charger. If left floating, an internal 2Mohm pulldown resistor defaults the LTC4076 to charge mode . Pull this pin high for shutdown.", 7 HPWR (in) "HPWR Enable Input. Used to control the amount of current drawn from the USB port. A logic high on the HPWR pin sets the charge current to 100% of the current programmed by the IUSB pin. A logic low on the HPWR pin sets the (See Datasheet)", 8 IDC (in) "Charge Current Program for Wall Adapter Power. The charge current is set by connecting a resistor, RIDC, to ground. When charging in constant-current mode, this pin servos to 1V.", 9 BAT (power) "Charger Output. This pin provides charge current to the battery and regulates the final float voltage to 4.2V.", 10 DCIN (power) "Wall Adapter Input Supply Pin. Provides power to the battery charger. The maximum supply current is 950mA. This should be bypassed with a 1uF capacitor.", 11 EP (power) "GND. The exposed backside of the package is ground and must be soldered to PC board ground for electrical connection and maximum heat transfer."

## LTC4076EDD#PBF
designator U?
Dual Input Standalone Battery Charger, 4.3 to 8 V Vin, 10-pin SON (DD-10), -40 to 85 degC, Pb-Free; Manufacturer: Linear Technology; PartNumber: LTC4076EDD#PBF; Battery Chemistry: Li-Ion, Li-Polymer; Charge Termination: C/X; Float Voltage: 4.2 V; Max Charge Current(A): 0.95; Number of Cells: 1; Type of Charger: Linear; Vin Max(V): 8; Vin Min(V): 4.3; DatasheetVersion: Rev. A; PackageVersion: Rev. C, 06/2010; PackageReference: DD-10; PackageDescription: 10-Pin Plastic DFN, Body 3 x 3 mm, Pitch 0.5 mm; Supplier 1: Digi-Key; Supplier Part Number 1: LTC4076EDD#PBF-ND; Supplier 2: Farnell; Supplier Part Number 2: 1648046; Supplier 3: Newark; Supplier Part Number 3: 58M0934; RoHS: TRUE; Mounting Technology: Surface Mount; Code_JEDEC: MO-229; ComponentLink1Description: Manufacturer URL; ComponentLink1URL: http://www.linear.com/; ComponentLink2Description: Datasheet; ComponentLink2URL: http://cds.linear.com/docs/en/datasheet/4076fa.pdf; ComponentLink3Description: Package Specification; ComponentLink3URL: http://cds.linear.com/docs/en/packaging/DFN_10_05-08-1699.pdf
footprint LT-DD-10_V (SON, 10-Leads, Body 3x3mm, Pitch 0.5mm, Thermal Pad 2.38x1.65mm)
pins: 1 USBIN (power) "USB Input Supply Pin. Provides power to the battery charger. The maximum supply current is 650mA. This pin should be bypassed with a 1uF capacitor.", 2 IUSB (in) "Charge Current Program for USB Power. The charge current is set by connecting a resistor, RIUSB, to ground. When charging in constant-current mode, this pin servos to 1V.", 3 ITERM (in) "Termination Current Threshold Program. The termination current threshold, ITERMINATE, is set by connecting a resistor, RITERM, to ground. ITERMINATE is set by the following formula: ITERMINATE = 100V/RITERM When the battery (See Datasheet)", 4 ~{PWR} (hiz) "Open-Drain Power Supply Status Output. When the DCIN or USBIN pin voltage is sufficient to begin charging (i.e. when the supply is greater than the undervoltage lockout threshold and at least 180mV above the battery (See Datasheet)", 5 ~{CHRG} (hiz) "Open-Drain Charge Status Output. When the LTC4076 is charging, the C\H\R\G\ pin is pulled low by an internal N-channel MOSFET. When the charge cycle is completed, C\H\R\G\ becomes high impedance. This output is capable of (See Datasheet)", 6 ~{EN} (in) "Charge Enable Input. A logic low on this pin enables the charger. If left floating, an internal 2Mohm pulldown resistor defaults the LTC4076 to charge mode . Pull this pin high for shutdown.", 7 HPWR (in) "HPWR Enable Input. Used to control the amount of current drawn from the USB port. A logic high on the HPWR pin sets the charge current to 100% of the current programmed by the IUSB pin. A logic low on the HPWR pin sets the (See Datasheet)", 8 IDC (in) "Charge Current Program for Wall Adapter Power. The charge current is set by connecting a resistor, RIDC, to ground. When charging in constant-current mode, this pin servos to 1V.", 9 BAT (power) "Charger Output. This pin provides charge current to the battery and regulates the final float voltage to 4.2V.", 10 DCIN (power) "Wall Adapter Input Supply Pin. Provides power to the battery charger. The maximum supply current is 950mA. This should be bypassed with a 1uF capacitor.", 11 EP (power) "GND. The exposed backside of the package is ground and must be soldered to PC board ground for electrical connection and maximum heat transfer."

## LTC4076EDD#TR
designator U?
Dual Input Standalone Battery Charger, 4.3 to 8 V Vin, 10-pin SON (DD-10), -40 to 85 degC, Tape and Reel; Manufacturer: Linear Technology; PartNumber: LTC4076EDD#TR; Battery Chemistry: Li-Ion, Li-Polymer; Charge Termination: C/X; Float Voltage: 4.2 V; Max Charge Current(A): 0.95; Number of Cells: 1; Type of Charger: Linear; Vin Max(V): 8; Vin Min(V): 4.3; DatasheetVersion: Rev. A; PackageVersion: Rev. C, 06/2010; PackageReference: DD-10; PackageDescription: 10-Pin Plastic DFN, Body 3 x 3 mm, Pitch 0.5 mm; Supplier 1: Digi-Key; Supplier Part Number 1: LTC4076EDD#TR-ND; Packing: Tape and Reel; RoHS: FALSE; Mounting Technology: Surface Mount; Code_JEDEC: MO-229; ComponentLink1Description: Manufacturer URL; ComponentLink1URL: http://www.linear.com/; ComponentLink2Description: Datasheet; ComponentLink2URL: http://cds.linear.com/docs/en/datasheet/4076fa.pdf; ComponentLink3Description: Package Specification; ComponentLink3URL: http://cds.linear.com/docs/en/packaging/DFN_10_05-08-1699.pdf
footprint LT-DD-10_V (SON, 10-Leads, Body 3x3mm, Pitch 0.5mm, Thermal Pad 2.38x1.65mm)
pins: 1 USBIN (power) "USB Input Supply Pin. Provides power to the battery charger. The maximum supply current is 650mA. This pin should be bypassed with a 1uF capacitor.", 2 IUSB (in) "Charge Current Program for USB Power. The charge current is set by connecting a resistor, RIUSB, to ground. When charging in constant-current mode, this pin servos to 1V.", 3 ITERM (in) "Termination Current Threshold Program. The termination current threshold, ITERMINATE, is set by connecting a resistor, RITERM, to ground. ITERMINATE is set by the following formula: ITERMINATE = 100V/RITERM When the battery (See Datasheet)", 4 ~{PWR} (hiz) "Open-Drain Power Supply Status Output. When the DCIN or USBIN pin voltage is sufficient to begin charging (i.e. when the supply is greater than the undervoltage lockout threshold and at least 180mV above the battery (See Datasheet)", 5 ~{CHRG} (hiz) "Open-Drain Charge Status Output. When the LTC4076 is charging, the C\H\R\G\ pin is pulled low by an internal N-channel MOSFET. When the charge cycle is completed, C\H\R\G\ becomes high impedance. This output is capable of (See Datasheet)", 6 ~{EN} (in) "Charge Enable Input. A logic low on this pin enables the charger. If left floating, an internal 2Mohm pulldown resistor defaults the LTC4076 to charge mode . Pull this pin high for shutdown.", 7 HPWR (in) "HPWR Enable Input. Used to control the amount of current drawn from the USB port. A logic high on the HPWR pin sets the charge current to 100% of the current programmed by the IUSB pin. A logic low on the HPWR pin sets the (See Datasheet)", 8 IDC (in) "Charge Current Program for Wall Adapter Power. The charge current is set by connecting a resistor, RIDC, to ground. When charging in constant-current mode, this pin servos to 1V.", 9 BAT (power) "Charger Output. This pin provides charge current to the battery and regulates the final float voltage to 4.2V.", 10 DCIN (power) "Wall Adapter Input Supply Pin. Provides power to the battery charger. The maximum supply current is 950mA. This should be bypassed with a 1uF capacitor.", 11 EP (power) "GND. The exposed backside of the package is ground and must be soldered to PC board ground for electrical connection and maximum heat transfer."